# EAGLE library part AK4565VF (library xess)
AKM 20-bit Audio Codec
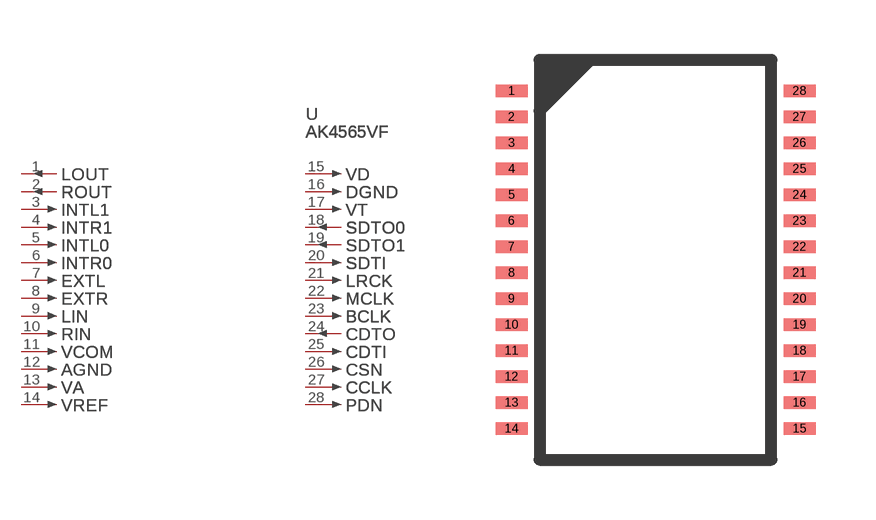
[diagram p142: symbol with the pads of AKM-VSOP28; footprint AKM-VSOP28]

Designator prefix U; gates PART=PV_GATE LOUT=PIN_GATE_OUT ROUT=PIN_GATE_OUT INTL1=PIN_GATE_IN INTR1=PIN_GATE_IN INTL0=PIN_GATE_IN INTR0=PIN_GATE_IN EXTL=PIN_GATE_IN EXTR=PIN_GATE_IN LIN=PIN_GATE_IN RIN=PIN_GATE_IN VCOM=PIN_GATE_IN AGND=PIN_GATE_IN VA=PIN_GATE_IN VREF=PIN_GATE_IN VD=PIN_GATE_IN DGND=PIN_GATE_IN VT=PIN_GATE_IN SDTO0=PIN_GATE_OUT SDTI=PIN_GATE_IN LRCK=PIN_GATE_IN MCLK=PIN_GATE_IN BCLK=PIN_GATE_IN CDTO=PIN_GATE_OUT CDTI=PIN_GATE_IN CSN=PIN_GATE_IN CCLK=PIN_GATE_IN PDN=PIN_GATE_IN SDTO1=PIN_GATE_OUT

## AK4565VF (MANF: AKM; MANF#: AK4565VF)  [AKM-VSOP28]
1  LOUT:1  out
2  ROUT:1  out
3  INTL1:1  in
4  INTR1:1  in
5  INTL0:1  in
6  INTR0:1  in
7  EXTL:1  in
8  EXTR:1  in
9  LIN:1  in
10  RIN:1  in
11  VCOM:1  in
12  AGND:1  in
13  VA:1  in
14  VREF:1  in
15  VD:1  in
16  DGND:1  in
17  VT:1  in
18  SDTO0:1  out
19  SDTO1:1  out
20  SDTI:1  in
21  LRCK:1  in
22  MCLK:1  in
23  BCLK:1  in
24  CDTO:1  out
25  CDTI:1  in
26  CSN:1  in
27  CCLK:1  in
28  PDN:1  in

## Footprint AKM-VSOP28 (pad centres in mm)
AKM VSOP-28
smd 0.8 x 0.32: 1 -0.05,0; 2 -0.05,-0.65; 3 -0.05,-1.3; 4 -0.05,-1.95; 5 -0.05,-2.6; 6 -0.05,-3.25; 7 -0.05,-3.9; 8 -0.05,-4.55; 9 -0.05,-5.2; 10 -0.05,-5.85; 11 -0.05,-6.5; 12 -0.05,-7.15; 13 -0.05,-7.8; 14 -0.05,-8.45; 15 7.15,-8.45; 16 7.15,-7.8; 17 7.15,-7.15; 18 7.15,-6.5; 19 7.15,-5.85; 20 7.15,-5.2; 21 7.15,-4.55; 22 7.15,-3.9; 23 7.15,-3.25; 24 7.15,-2.6; 25 7.15,-1.95; 26 7.15,-1.3; 27 7.15,-0.65; 28 7.15,0